# Altium footprint library LM2775DSGR.PcbLib: 2 footprints
Each footprint in its own frame and in the unit in brackets; x right, y up, seen from the top. Pads: shape width x height; smd on the part's side, far side on the other; paste and mask are expansions set on the pad; w line width, h text height; cw(c..) or ccw(c..) is an arc to the next point about the centre after c.
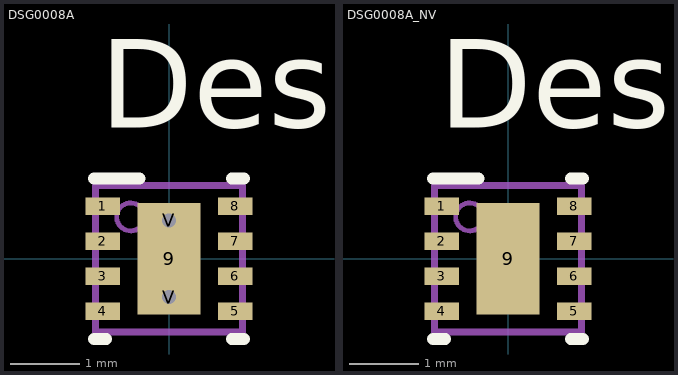
[diagram p0: the footprints below, top view; thin cyan lines are the x and y axes]

## DSG0008A [mm]
pads (11):
  rect 0.5x0.25 smd paste+0 mask+0.051: 1(-0.95,0.75) 2(-0.95,0.25) 3(-0.95,-0.25) 4(-0.95,-0.75) 5(0.95,-0.75) 6(0.95,-0.25) 7(0.95,0.25) 8(0.95,0.75)
  rect 0.9x1.6 smd paste-0.45 mask+0.051: 9(0,0)
  round 0.5 / inner round 1.524 / far side round 0.5 hole 0.203 paste-0.25 mask+0.076: V(0,-0.55) V(0,0.55)
Top Overlay:
  lines w0.17: -1.075,-1.15 -0.9,-1.15 ; -1.075,1.15 -0.425,1.15 ; 0.9,-1.15 1.075,-1.15 ; 0.9,1.15 1.075,1.15
  text "Designator734" at -0.991,1.88 h1.27
Top Paste:
  region: -0.449,0.139 -0.45,0.149 -0.45,0.751 -0.449,0.761 -0.446,0.77 -0.442,0.778 -0.436,0.786 -0.428,0.792 -0.42,0.796 -0.411,0.799 -0.401,0.8 0.401,0.8 0.411,0.799 0.42,0.796 0.428,0.792 0.436,0.786 0.442,0.778 0.446,0.77 0.449,0.761 0.45,0.751 0.45,0.149 0.449,0.139 0.446,0.13 0.442,0.122 0.436,0.114 0.428,0.108 0.42,0.104 0.411,0.101 0.401,0.1 -0.401,0.1 -0.411,0.101 -0.42,0.104 -0.428,0.108 -0.436,0.114 -0.442,0.122 -0.446,0.13
  region: -0.449,-0.761 -0.45,-0.751 -0.45,-0.149 -0.449,-0.139 -0.446,-0.13 -0.442,-0.122 -0.436,-0.114 -0.428,-0.108 -0.42,-0.104 -0.411,-0.101 -0.401,-0.1 0.401,-0.1 0.411,-0.101 0.42,-0.104 0.428,-0.108 0.436,-0.114 0.442,-0.122 0.446,-0.13 0.449,-0.139 0.45,-0.149 0.45,-0.751 0.449,-0.761 0.446,-0.77 0.442,-0.778 0.436,-0.786 0.428,-0.792 0.42,-0.796 0.411,-0.799 0.401,-0.8 -0.401,-0.8 -0.411,-0.799 -0.42,-0.796 -0.428,-0.792 -0.436,-0.786 -0.442,-0.778 -0.446,-0.77
Mechanical 13:
  circle w0.07: c-0.55,0.6 r0.2
  lines w0.1: -1.05,-1.05 -1.05,1.05 1.05,1.05 1.05,-1.05 -1.05,-1.05

## DSG0008A_NV [mm]
pads (9):
  rect 0.5x0.25 smd paste+0 mask+0.051: 1(-0.95,0.75) 2(-0.95,0.25) 3(-0.95,-0.25) 4(-0.95,-0.75) 5(0.95,-0.75) 6(0.95,-0.25) 7(0.95,0.25) 8(0.95,0.75)
  rect 0.9x1.6 smd paste-0.45 mask+0.051: 9(0,0)
Top Overlay:
  lines w0.17: -1.075,-1.15 -0.9,-1.15 ; -1.075,1.15 -0.425,1.15 ; 0.9,-1.15 1.075,-1.15 ; 0.9,1.15 1.075,1.15
  text "Designator735" at -0.991,1.88 h1.27
Top Paste:
  region: -0.449,0.139 -0.45,0.149 -0.45,0.751 -0.449,0.761 -0.446,0.77 -0.442,0.778 -0.436,0.786 -0.428,0.792 -0.42,0.796 -0.411,0.799 -0.401,0.8 0.401,0.8 0.411,0.799 0.42,0.796 0.428,0.792 0.436,0.786 0.442,0.778 0.446,0.77 0.449,0.761 0.45,0.751 0.45,0.149 0.449,0.139 0.446,0.13 0.442,0.122 0.436,0.114 0.428,0.108 0.42,0.104 0.411,0.101 0.401,0.1 -0.401,0.1 -0.411,0.101 -0.42,0.104 -0.428,0.108 -0.436,0.114 -0.442,0.122 -0.446,0.13
  region: -0.449,-0.761 -0.45,-0.751 -0.45,-0.149 -0.449,-0.139 -0.446,-0.13 -0.442,-0.122 -0.436,-0.114 -0.428,-0.108 -0.42,-0.104 -0.411,-0.101 -0.401,-0.1 0.401,-0.1 0.411,-0.101 0.42,-0.104 0.428,-0.108 0.436,-0.114 0.442,-0.122 0.446,-0.13 0.449,-0.139 0.45,-0.149 0.45,-0.751 0.449,-0.761 0.446,-0.77 0.442,-0.778 0.436,-0.786 0.428,-0.792 0.42,-0.796 0.411,-0.799 0.401,-0.8 -0.401,-0.8 -0.411,-0.799 -0.42,-0.796 -0.428,-0.792 -0.436,-0.786 -0.442,-0.778 -0.446,-0.77
Mechanical 13:
  circle w0.07: c-0.55,0.6 r0.2
  lines w0.1: -1.05,-1.05 -1.05,1.05 1.05,1.05 1.05,-1.05 -1.05,-1.05